# EAGLE library part 418127160906 (library Wurth_Elektronik_Electromechanic_Switchs_rev15b)
WS-IC-2.54 mm small compact THT Dip Switch with top tape,12 pins,6 poles
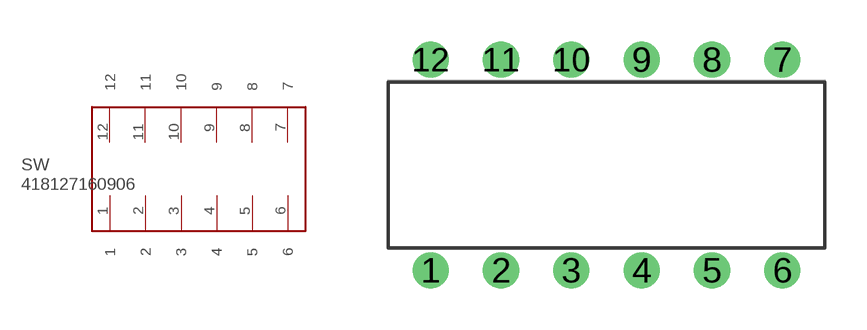
[diagram p51: symbol with the pads of 418127160906; footprint 418127160906]

Designator prefix SW

## 418127160906  [418127160906]
1  1
2  2
3  3
4  4
5  5
6  6
7  7
8  8
9  9
10  10
11  11
12  12

## Footprint 418127160906 (pad centres in mm)
WS-IC-2.54 mm small compact THT Dip Switch with top tape,12 pins,6 poles
drill 0.8: 1 0,-3.81; 2 2.54,-3.81; 3 5.08,-3.81; 4 7.62,-3.81; 5 10.16,-3.81; 6 12.7,-3.81; 7 12.7,3.81; 8 10.16,3.81; 9 7.62,3.81; 10 5.08,3.81; 11 2.54,3.81; 12 0,3.81